# Altium footprint library 2020-07-10_01-58-29.PcbLib: 1 footprints
Each footprint in its own frame and in the unit in brackets; x right, y up, seen from the top. Pads: shape width x height; smd on the part's side, far side on the other; paste and mask are expansions set on the pad; w line width, h text height; cw(c..) or ccw(c..) is an arc to the next point about the centre after c.
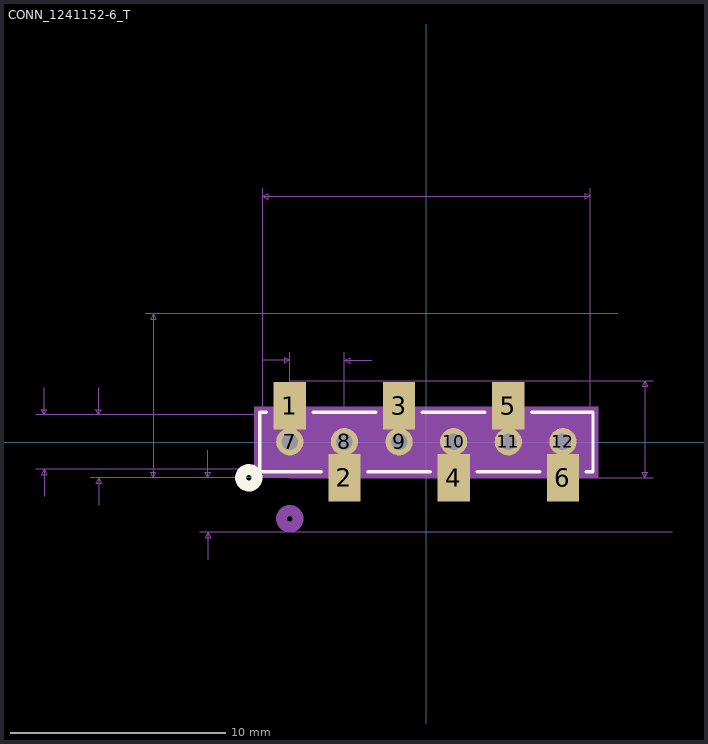
[diagram p0: the footprint, top view; thin cyan lines are the x and y axes]

## CONN_1241152-6_T [mil]
pads (12):
  rect 59x87 smd paste+0 mask+0: 1(-250,66.5) 2(-150,-65.5) 3(-50,66.5) 4(50,-65.5) 5(150,66.5) 6(250,-65.5)
  round 50 hole 30 mask+0: 7(-250,0.5) 8(-150,0.5) 9(-50,0.5) 10(50,0.5) 11(150,0.5) 12(250,0.5)
Top Overlay:
  circle w20: c-325,-65.5 r15
  lines w6: -292.6,54.5 -305,54.5 -305,-54.5 -192.6,-54.5 ; -207.4,54.5 -92.6,54.5 ; -107.4,-54.5 7.4,-54.5 ; -7.4,54.5 107.4,54.5 ; 92.6,-54.5 207.4,-54.5 ; 192.6,54.5 305,54.5 305,-54.5 292.6,-54.5
Bottom Overlay:
  circle w20: c-325,-65.5 r15
Mechanical 5:
  region: -315,64.5 315,64.5 315,-64.5 -315,-64.5
Mechanical 7:
  lines w1: -715,-49.5 -300,-49.5 ; -715,49.5 -300,49.5 ; -700,-99.5 -700,-49.5 ; -700,99.5 -700,49.5 ; -615,-65.5 0,-65.5 ; -615,49.5 -300,49.5 ; -600,-115.5 -600,-65.5 ; -600,99.5 -600,49.5 ; -515,-65.5 0,-65.5 ; -515,234.5 350,234.5 ; -415,-165.5 450,-165.5 ; -415,-65.5 0,-65.5 ; -400,-215.5 -400,-165.5 ; -400,-15.5 -400,-65.5 ; -300,149.5 -250,149.5 ; -300,464.5 -300,49.5 ; -250,112.45 415,112.45 ; -250,164.5 -250,-65.5 415,-65.5 ; -150,-65.5 -150,164.5 ; -100,149.5 -150,149.5 ; 300,49.5 300,464.5 ; -700,-49.5 -705,-59.5 -695,-59.5 -700,-49.5 ; -700,49.5 -705,59.5 -695,59.5 -700,49.5 ; -600,-65.5 -605,-75.5 -595,-75.5 -600,-65.5 ; -600,49.5 -605,59.5 -595,59.5 -600,49.5 ; -500,-65.5 -500,234.5 ; -500,-65.5 -505,-55.5 -495,-55.5 -500,-65.5 ; -500,234.5 -505,224.5 -495,224.5 -500,234.5 ; -400,-165.5 -405,-175.5 -395,-175.5 -400,-165.5 ; -400,-65.5 -405,-55.5 -395,-55.5 -400,-65.5 ; -300,449.5 300,449.5 ; -300,449.5 -290,454.5 -290,444.5 -300,449.5 ; -250,149.5 -260,154.5 -260,144.5 -250,149.5 ; -150,149.5 -140,154.5 -140,144.5 -150,149.5 ; 300,449.5 290,454.5 290,444.5 300,449.5 ; 400,-65.5 400,112.45 ; 400,-65.5 395,-55.5 405,-55.5 400,-65.5 ; 400,112.45 395,102.45 405,102.45 400,112.45
  text "Default Padstyle: r221_150" at -325,-199.5 h50
  text "Alt 1 Padstyle: b152_229h76" at -337.5,-249.5 h50
  text "Alt 2 Padstyle: b229_152h76" at -337.5,-299.5 h50
  text "0.1in/2.54mm" at -250,169.5 h25
  text "0.6in/15.24mm" at -81.25,469.5 h25
  text "0.178in/4.52mm" at 420,-78 h25
  text "-0.1in/-2.54mm" at -595,-128 h25
  text "0.3in/7.62mm" at -670,72 h25
  text "0.115in/2.921mm" at -807.5,-20.5 h25
  text "0.099in/2.515mm" at -907.5,-20.5 h25
Mechanical 13:
  circle w20: c-250,-140.5 r15
  lines w1: -300,-49.5 300,-49.5 300,49.5 -300,49.5 -300,-49.5
Mechanical 15:
  region: 310,59.5 -310,59.5 -310,-59.5 310,-59.5
  lines w6: -310,-59.5 -310,59.5 310,59.5 310,-59.5 -310,-59.5
3D body: height 10, standoff 0, extent 0,0 10,10